# EAGLE library part SIA817EDJ-T1-GE3CT-ND (library MOSFECTS_ACTIVE14)
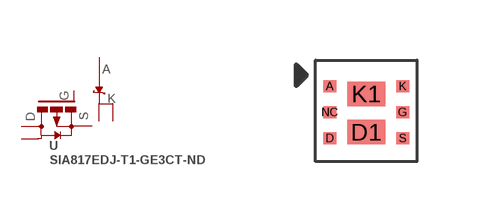
[diagram p1: symbol with the pads of SC70-6L_P_MOSFET; footprint SC70-6L_P_MOSFET]

Designator prefix -

## SIA817EDJ-T1-GE3CT-ND  [SC70-6L_P_MOSFET]
A  A  pas
D  D  pas
D1  D1  pas
G  G  pas
K  K  pas
K1  K1  pas
S  S  pas

## Footprint SC70-6L_P_MOSFET (pad centres in mm)
PowerPAK® SC-70-6 Dual
smd 0.325 x 0.3: A -0.914,0.66; D -0.914,-0.64; G 0.911,0.01; K 0.911,0.66; NC -0.914,0.01; S 0.911,-0.64
smd 0.95 x 0.613: D1 -0.002,-0.482; K1 -0.002,0.475